# Altium schematic symbol library SCH - DIODES - DIODE SCHOTTKY.SCHLIB: 2 symbols
Pins are listed as number, name and electrical type; pins without a type are passive.

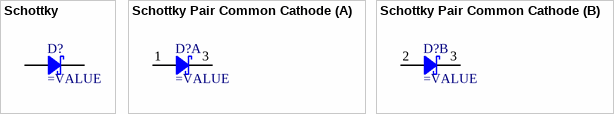
[diagram p0: symbols Schottky to Schottky Pair Common Cathode]

## Schottky
designator D?
Zener Diode
pins: 1, 2

## Schottky Pair Common Cathode
designator D?
Zener Diode
part A pins: 1, 3
part B pins: 2, 3